# EAGLE library part BMP280 (library bschulz)
BMP280 - Digital Pressure Sensor Characteristics: Vcc: 1.8V ~ 3.3V Pressure Range: 300 ~ 1100 mBar Pressure Resolution: 0.0015 mBar, max Pressure Accuracy: relative ±0.12 mBar, abs ± 1 mBar Temperature Resolution: 0.01°C Temperature Accuracy: 0.5°C Operating Temperature: -40°C to 85°C Digikey: 828-1064-1-ND <https://www.digikey.com/product-detail/en/bosch-sensortec/BMP280/828-1064-1-ND/6136315>
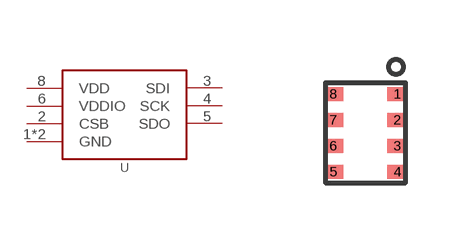
[diagram p55: symbol with the pads of BMP280; footprint BMP280]

Designator prefix U

## BMP280 (DIGIKEY: 828-1064-1-ND; DISP: BMP280; MF: Bosch; MPN: BMP280)  [BMP280]
1  GND  pwr
2  CSB
3  SDI
4  SCK
5  SDO
6  VDDIO
7  GND  pwr
8  VDD  pwr

## Footprint BMP280 (pad centres in mm)
smd 0.5 x 0.35: 1 0.8,0.975; 2 0.8,0.325; 3 0.8,-0.325; 4 0.8,-0.975; 5 -0.8,-0.975; 6 -0.8,-0.325; 7 -0.8,0.325; 8 -0.8,0.975